# EAGLE library part PROX_SENSOR (library custom-connectors)
Connector Header, 0.050" 6 position PCB Gold
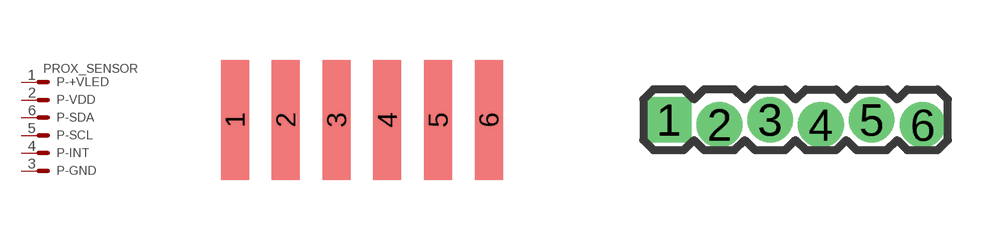
[diagram p14: symbol with the pads of GRPB061VWTC-RC_EDGE; footprints GRPB061VWTC-RC_EDGE, 1X06_LOCK_1.27]

Designator prefix P; gates -+VLED=MV -VDD=M -SDA=M -SCL=M -INT=M -GND=M

## PROX_SENSOR_EDGE (DIGI-KEY: S9014E-06-ND)  [GRPB061VWTC-RC_EDGE]
1  -+VLED:S  pas
2  -VDD:S  pas
3  -GND:S  pas
4  -INT:S  pas
5  -SCL:S  pas
6  -SDA:S  pas

## PROX_SENSOR_TH (DIGI-KEY: S9008E-06-ND)  [1X06_LOCK_1.27]
Pads as for GRPB061VWTC-RC_EDGE

## PROX_SENSOR_SMD  [GRPB061VWTC-RC]
Pads as for GRPB061VWTC-RC_EDGE

## Footprint GRPB061VWTC-RC_EDGE (pad centres in mm)
smd 0.7 x 3: 1 -3.175,1.5; 2 -1.905,1.5; 3 -0.635,1.5; 4 0.635,1.5; 5 1.905,1.5; 6 3.175,1.5

## Footprint 1X06_LOCK_1.27 (pad centres in mm)
drill 0.6 pad 1.143 square: 1 -3.175,0
drill 0.6 pad 1.143: 2 -1.905,-0.127; 3 -0.635,0; 4 0.635,-0.127; 5 1.905,0; 6 3.175,-0.127

## Footprint GRPB061VWTC-RC (pad centres in mm)
smd 0.75 x 1.8: 1 -3.175,1.4; 2 -1.905,-1.4; 3 -0.635,1.4; 4 0.635,-1.4; 5 1.905,1.4; 6 3.175,-1.4